# EAGLE library part IRF7703 (library 000001)
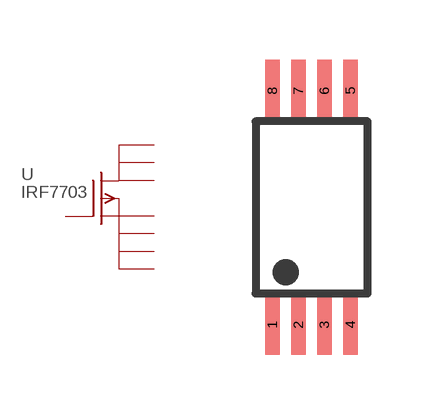
[diagram p53: symbol with the pads of TSSOP8; footprint TSSOP8]

Designator prefix -

## IRF7703  [TSSOP8]
1  D  pas
2  S1  pas
3  S2  pas
4  G  pas
5  D1  pas
6  S3  pas
7  S4  pas
8  D2  pas

## Footprint TSSOP8 (pad centres in mm)
Thin Shrink Small Outline Package package type ST
smd 0.356 x 1.524: 1 -0.975,-2.925; 2 -0.325,-2.925; 3 0.325,-2.925; 4 0.975,-2.925; 5 0.975,2.925; 6 0.325,2.925; 7 -0.325,2.925; 8 -0.975,2.925